# EAGLE library part IV-9 (library domestichacks)
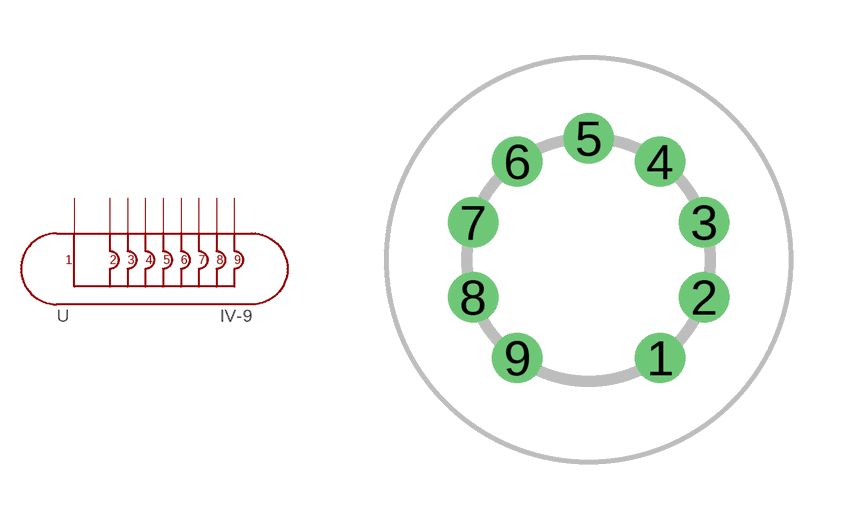
[diagram p1: symbol with the pads of IV-9; footprint IV-9]

Designator prefix -

## IV-9  [IV-9]
1  1
2  2
3  3
4  4
5  5
6  6
7  7
8  8
9  9

## Footprint IV-9 (pad centres in mm)
IV-9 Numitron
drill 0.8: 1 1.854,-2.552; 2 3,-0.975; 3 3,0.975; 4 1.854,2.552; 5 0,3.154; 6 -1.854,2.552; 7 -3,0.975; 8 -3,-0.975; 9 -1.854,-2.552